# Altium footprint library 通讯接口.PcbLib: 39 footprints (part 2 of 3)
Each footprint in its own frame and in the unit in brackets; x right, y up, seen from the top. Pads: shape width x height; smd on the part's side, far side on the other; paste and mask are expansions set on the pad; w line width, h text height; cw(c..) or ccw(c..) is an arc to the next point about the centre after c.
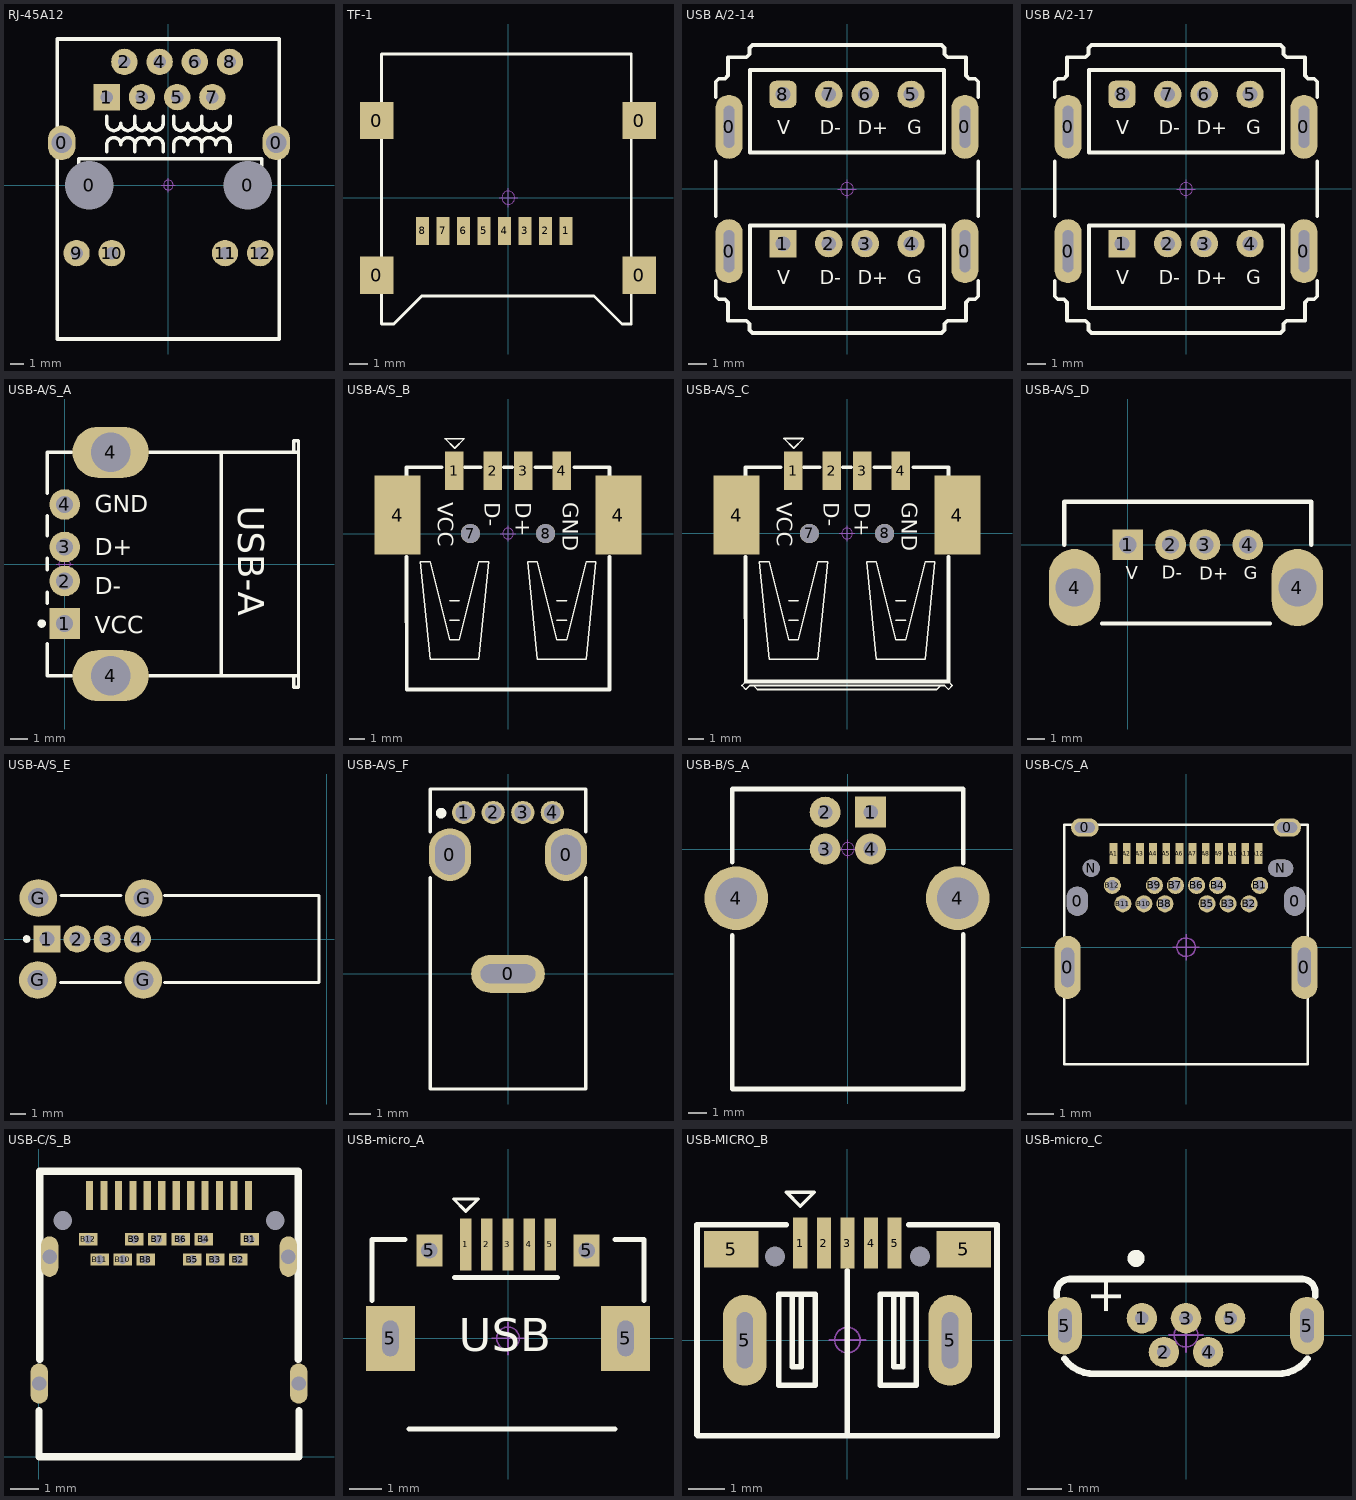
[diagram p1: the footprints below, top view; thin cyan lines are the x and y axes]

## RJ-45A12 [mm] "网线接口"
pads (16):
  oval 2x2.5 hole 1.5: 0(-7.695,3.05) 0(7.785,3.05)
  round 3.302 hole 3.5: 0(-5.715,0) 0(5.715,0)
  rect 1.905x1.905 hole 0.9: 1(-4.445,6.35)
  round 1.905 hole 0.9: 2(-3.175,8.89) 3(-1.905,6.35) 4(-0.635,8.89) 5(0.635,6.35) 6(1.905,8.89) 7(3.175,6.35) 8(4.445,8.89) 9(-6.625,-4.9) 10(-4.085,-4.9) 11(4.085,-4.9) 12(6.625,-4.9)
Top Overlay:
  lines w0.254: -6.477,1.397 -6.477,1.905 6.731,1.905 6.731,1.397 ; -4.445,2.413 -4.445,2.921 cw(c-3.937,2.921) -3.429,2.921 cw(c-2.921,2.921) -2.413,2.921 ; -4.445,4.953 -4.445,4.445 ccw(c-3.937,4.445) -3.429,4.445 ccw(c-2.921,4.445) -2.413,4.445 ; -2.413,2.413 -2.413,2.921 ; -2.413,4.953 -2.413,4.445 ; -0.381,2.413 -0.381,2.921 ccw(c-0.889,2.921) -1.397,2.921 ccw(c-1.905,2.921) -2.413,2.921 ; -0.381,4.953 -0.381,4.445 cw(c-0.889,4.445) -1.397,4.445 cw(c-1.905,4.445) -2.413,4.445 ; 0.381,2.413 0.381,2.921 cw(c0.889,2.921) 1.397,2.921 cw(c1.905,2.921) 2.413,2.921 ; 0.381,4.953 0.381,4.445 ccw(c0.889,4.445) 1.397,4.445 ccw(c1.905,4.445) 2.413,4.445 ; 2.413,2.413 2.413,2.921 ; 2.413,4.953 2.413,4.445 ; 4.445,2.413 4.445,2.921 ccw(c3.937,2.921) 3.429,2.921 ccw(c2.921,2.921) 2.413,2.921 ; 4.445,4.953 4.445,4.445 cw(c3.937,4.445) 3.429,4.445 cw(c2.921,4.445) 2.413,4.445 ; -8.001,-11.1 8.001,-11.1 8.001,10.541 -8.001,10.541 -8.001,-11.1
Mechanical 15:
  circle w0.05: c0,0 r0.35
  lines w0.05: -0.5,0 0.5,0 ; 0,-0.5 0,0.5
3D body "HanRun-HR911105A.STEP": height 1.5, standoff -15, extent -7.971,-10.926 7.909,10.474

## TF-1 [mm]
height 2
pads (12):
  rect 1.8x2 smd: 0(-7.068,-4.16) 0(-7.068,4.14) 0(7.032,-4.16) 0(7.032,4.14)
  rect 0.7x1.5 smd: 1(3.1,-1.783) 2(2,-1.783) 3(0.9,-1.783) 4(-0.2,-1.783) 5(-1.3,-1.783) 6(-2.4,-1.783) 7(-3.5,-1.783) 8(-4.6,-1.783)
Top Overlay:
  lines w0.152: -6.8,-6.783 -6.15,-6.783 -4.65,-5.283 4.6,-5.283 6.1,-6.783 6.6,-6.783 6.6,7.717 3.1,7.717 -6.8,7.717 -6.8,-6.783
Mechanical 15:
  circle w0.05: c0,0 r0.35
  lines w0.05: -0.5,0 0.5,0 ; 0,-0.5 0,0.5
3D body "User Library-5009010801.STEP": height 1.93, standoff -0.02, extent -7.4,-6.783 7.2,7.717

## USB A/2-14 [mm] "双层USB母座高14.2mm"
pads (12):
  oval 1.5x3.5 hole 0.6 slot 2.3 at 90 deg: 0(-6.45,-3.4) 0(-6.45,3.4) 0(6.45,-3.4) 0(6.45,3.4)
  rect 1.5x1.5 hole 0.8: 1(-3.5,-2.985)
  round 1.5 hole 0.8: 2(-1,-2.985) 3(1,-2.985) 4(3.5,-2.985) 5(3.5,5.17) 6(1,5.17) 7(-1,5.17)
  rrect50% 1.5x1.5 hole 0.8: 8(-3.5,5.17)
Top Overlay:
  lines w0.203: -7.176,-5.024 -7.176,-5.863 -7.007,-6.031 -6.67,-6.031 -6.501,-6.2 -6.5,-6.199 -6.5,-7.199 -5.5,-7.199 -5.331,-7.369 -5.331,-7.706 -5.163,-7.875 5.162,-7.875 5.331,-7.706 5.331,-7.369 5.5,-7.2 6.5,-7.199 6.5,-6.199 6.501,-6.2 6.67,-6.031 7.007,-6.031 7.176,-5.863 7.176,-5.024 ; -7.176,-1.476 -7.176,1.524 ; -7.176,5.024 -7.176,5.862 -7.007,6.031 -6.67,6.031 -6.501,6.2 -6.5,6.199 -6.5,7.199 -5.5,7.199 ; -5.5,7.2 -5.331,7.369 -5.331,7.706 -5.163,7.875 5.162,7.875 5.331,7.706 5.331,7.369 5.5,7.2 6.5,7.199 6.5,6.199 6.501,6.2 6.67,6.031 7.007,6.031 7.176,5.863 7.176,5.024 ; 7.176,-1.476 7.176,1.524 ; -5.3,-6.5 5.3,-6.5 5.3,-2 -5.3,-2 -5.3,-6.5 ; -5.3,2 -5.3,6.5 5.3,6.5 5.3,2 -5.3,2
  text "V" at -3.812,-5.207 h0.76
  text "G" at 3.3,-5.2 h0.76
  text "D+" at 0.6,-5.2 h0.76
  text "D-" at -1.5,-5.2 h0.76
  text "D-" at -1.5,3 h0.76
  text "D+" at 0.6,3 h0.76
  text "G" at 3.3,3 h0.76
  text "V" at -3.812,2.993 h0.76
Mechanical 15:
  circle w0.05: c0,0 r0.35
  lines w0.05: -0.5,0 0.5,0 ; 0,-0.5 0,0.5
3D body "USB A型14-2-14_2-180.STEP": height 14.26, standoff -4.03, extent -7.927,-7.8 7.927,7.8

## USB A/2-17 [mm] "双层USB母座高16.7mm"
pads (12):
  oval 1.5x3.5 hole 0.6 slot 2.3 at 90 deg: 0(-6.45,-3.4) 0(-6.45,3.4) 0(6.45,-3.4) 0(6.45,3.4)
  rect 1.5x1.5 hole 0.8: 1(-3.5,-2.985)
  round 1.5 hole 0.8: 2(-1,-2.985) 3(1,-2.985) 4(3.5,-2.985) 5(3.5,5.17) 6(1,5.17) 7(-1,5.17)
  rrect50% 1.5x1.5 hole 0.8: 8(-3.5,5.17)
Top Overlay:
  lines w0.203: -7.176,-5.024 -7.176,-5.863 -7.007,-6.031 -6.67,-6.031 -6.501,-6.2 -6.5,-6.199 -6.5,-7.199 -5.5,-7.199 -5.331,-7.369 -5.331,-7.706 -5.163,-7.875 5.162,-7.875 5.331,-7.706 5.331,-7.369 5.5,-7.2 6.5,-7.199 6.5,-6.199 6.501,-6.2 6.67,-6.031 7.007,-6.031 7.176,-5.863 7.176,-5.024 ; -7.176,-1.476 -7.176,1.524 ; -7.176,5.024 -7.176,5.862 -7.007,6.031 -6.67,6.031 -6.501,6.2 -6.5,6.199 -6.5,7.199 -5.5,7.199 ; -5.5,7.2 -5.331,7.369 -5.331,7.706 -5.163,7.875 5.162,7.875 5.331,7.706 5.331,7.369 5.5,7.2 6.5,7.199 6.5,6.199 6.501,6.2 6.67,6.031 7.007,6.031 7.176,5.863 7.176,5.024 ; 7.176,-1.476 7.176,1.524 ; -5.3,-6.5 -5.3,-2 5.3,-2 5.3,-6.5 -5.3,-6.5 ; -5.3,2 5.3,2 5.3,6.5 -5.3,6.5 -5.3,2
  text "V" at -3.812,2.993 h0.76
  text "G" at 3.3,3 h0.76
  text "D+" at 0.6,3 h0.76
  text "D-" at -1.5,3 h0.76
  text "D-" at -1.5,-5.2 h0.76
  text "D+" at 0.6,-5.2 h0.76
  text "G" at 3.3,-5.2 h0.76
  text "V" at -3.812,-5.207 h0.76
Mechanical 15:
  circle w0.05: c0,0 r0.35
  lines w0.05: -0.5,0 0.5,0 ; 0,-0.5 0,0.5
3D body "USB A型14-2-16_7-180.STEP": height 16.75, standoff -4.03, extent -7.927,-7.8 7.927,7.8

## USB-A/S_A [mm] "A型直插母头，"
height 7.01
pads (6):
  rect 1.8x1.8 hole 1: 1(0,-3.5)
  round 1.8 hole 1: 2(0,-1) 3(0,1) 4(0,3.5)
  oval 4.5x3 hole 2.3: 4(2.71,-6.57) 4(2.71,6.57)
Top Overlay:
  circle w0.25: c-1.35,-3.5 r0.125
  lines w0.2: -1.01,-4.7 -1.01,-6.565 0.41,-6.565 ; -1.01,-2.3 -1.01,-1.66 ; -1.01,-0.34 -1.01,0.34 ; -1.01,1.66 -1.01,2.84 ; -1.01,4.16 -1.01,6.565 0.41,6.565 ; 5.01,-6.565 13.752,-6.565 ; 5.01,6.565 13.752,6.565 ; 13.462,-6.565 13.462,-7.25 13.752,-7.25 13.752,7.25 13.462,7.25 13.462,6.565
  lines w0.203: 9.21,-6.565 9.21,6.565
  text "GND" at 1.778,3.048 h1.02
  text "D+" at 1.778,0.508 h1.02
  text "D-" at 1.778,-1.778 h1.02
  text "VCC" at 1.778,-4.064 h1.02
  text "USB-A" at 10.21,3.43 h1.52
Mechanical 15:
  circle w0.05: c0,0 r0.35
  lines w0.05: -0.5,0 0.5,0 ; 0,-0.5 0,0.5
3D body "USB A型 ?": height 6.8, standoff -4.31, extent -0.605,-7.342 13.7,7.342

## USB-A/S_B [mm] "A型贴片母头，"
pads (8):
  rect 1.2x2.5 smd: 1(-3.5,4.1) 2(-1,4.1) 3(1,4.1) 4(3.5,4.1)
  rect 3x5.15 smd: 4(-7.2,1.2) 4(7.2,1.2)
  round 1.25 hole 1.25 unplated: 7(-2.45,0) 8(2.45,0)
Top Overlay:
  lines w0.1: -3.803,-5.649 -3.168,-5.649 ; -3.803,-4.379 -3.168,-4.379 ; 3.182,-5.649 3.817,-5.649 ; 3.182,-4.379 3.817,-4.379 ; -5.708,-1.839 -5.073,-1.839 -3.803,-6.919 -3.168,-6.919 -1.898,-1.839 -1.263,-1.839 -1.898,-8.189 -5.073,-8.189 -5.708,-1.839 ; -4.113,6.19 -2.843,6.19 -3.478,5.555 -4.113,6.19 ; 1.277,-1.839 1.912,-1.839 3.182,-6.919 3.817,-6.919 5.087,-1.839 5.722,-1.839 5.087,-8.189 1.912,-8.189 1.277,-1.839
  lines w0.254: -6.604,-1.524 -6.597,-10.16 6.611,-10.16 6.604,-1.524 ; -6.604,3.81 -6.604,4.318 -4.318,4.318 ; -2.794,4.318 -1.778,4.318 ; -0.254,4.318 0.254,4.318 ; 1.778,4.318 2.794,4.318 ; 4.318,4.318 6.611,4.318 6.604,3.81
  text "VCC" at -4.572,2.032 h1.02
  text "D-" at -1.524,2.032 h1.02
  text "D+" at 0.508,2.032 h1.02
  text "GND" at 3.556,2.032 h1.02
Mechanical 15:
  circle w0.05: c0,0 r0.35
  lines w0.05: -0.5,0 0.5,0 ; 0,-0.5 0,0.5
3D body "USB A型 ?": height 6.9, standoff -0.55, extent -7.75,-9.9 7.75,4.8

## USB-A/S_C [mm] "A型贴片母头，"
pads (8):
  rect 1.2x2.5 smd: 1(-3.5,4.1) 2(-1,4.1) 3(1,4.1) 4(3.5,4.1)
  rect 3x5.15 smd: 4(-7.2,1.2) 4(7.2,1.2)
  round 1.25 hole 1.25 unplated: 7(-2.45,0) 8(2.45,0)
Top Overlay:
  lines w0.1: -6.597,-9.652 -6.851,-9.906 -6.597,-10.16 -6.343,-9.906 -6.089,-9.906 ; -3.803,-5.649 -3.168,-5.649 ; -3.803,-4.379 -3.168,-4.379 ; 3.182,-5.649 3.817,-5.649 ; 3.182,-4.379 3.817,-4.379 ; 6.611,-9.652 6.865,-9.906 6.611,-10.16 6.357,-9.906 6.103,-9.906 ; -6.089,-9.906 6.103,-9.906 ; -6.089,-9.906 -5.835,-10.166 5.849,-10.166 6.103,-9.906 ; -5.708,-1.839 -5.073,-1.839 -3.803,-6.919 -3.168,-6.919 -1.898,-1.839 -1.263,-1.839 -1.898,-8.189 -5.073,-8.189 -5.708,-1.839 ; -4.113,6.19 -2.843,6.19 -3.478,5.555 -4.113,6.19 ; 1.277,-1.839 1.912,-1.839 3.182,-6.919 3.817,-6.919 5.087,-1.839 5.722,-1.839 5.087,-8.189 1.912,-8.189 1.277,-1.839
  lines w0.254: -6.604,-1.524 -6.597,-9.652 ; -6.604,3.81 -6.604,4.318 -4.318,4.318 ; -6.597,-9.652 6.611,-9.652 ; -2.794,4.318 -1.778,4.318 ; -0.254,4.318 0.254,4.318 ; 1.778,4.318 2.794,4.318 ; 4.318,4.318 6.611,4.318 6.604,3.81 ; 6.604,-1.524 6.611,-9.652
  text "VCC" at -4.572,2.032 h1.02
  text "D-" at -1.524,2.032 h1.02
  text "D+" at 0.508,2.032 h1.02
  text "GND" at 3.556,2.032 h1.02
Mechanical 15:
  circle w0.05: c0,0 r0.35
  lines w0.05: -0.5,0 0.5,0 ; 0,-0.5 0,0.5
3D body "USB A型 ?": height 7.4, standoff -0.55, extent -7.75,-9.9 7.75,4.8

## USB-A/S_D [mm] "A型直插母头，"
pads (6):
  rect 1.8x1.8 hole 1: 1(0,0)
  round 1.8 hole 1: 2(2.5,0) 3(4.5,0) 4(7,0)
  oval 3x4.5 hole 2.2: 4(-3.1,-2.5) 4(9.9,-2.5)
Top Overlay:
  lines w0.254: -3.7,0 -3.7,2.5 10.7,2.5 10.7,0 ; -1.5,-4.6 8.3,-4.6
  text "V" at -0.112,-2.007 h0.76
  text "G" at 6.771,-2.007 h0.76
  text "D+" at 4.181,-2.032 h0.76
  text "D-" at 1.996,-1.981 h0.76
Mechanical 1:
  lines w0.254: -0.2,-0.2 cw(c0,-0.2) 0,0
3D body "USB-H.stp": height 14, standoff -4, extent -3.705,-4.599 10.695,2.501

## USB-A/S_E [mm] "A型直插母头，"
pads (8):
  rect 1.8x1.8 hole 1: 1(-18.56,0)
  round 1.8 hole 1: 2(-16.56,0) 3(-14.56,0) 4(-12.56,0)
  round 2.5 hole 1.35: G(-19.167,-2.718) G(-19.141,2.718) G(-12.167,-2.718) G(-12.141,2.718)
Top Overlay:
  circle w0.25: c-19.91,0 r0.125
  lines w0.2: -17.65,-2.878 -13.684,-2.878 ; -17.624,2.878 -13.658,2.878 ; -10.773,-2.88 -0.508,-2.88 -0.508,2.88 -10.773,2.88
3D body "USB-4H4.stp": height 14.45, standoff -3.69, extent -19.725,-3.606 -0.475,3.644

## USB-A/S_F [mm] "A型侧插短体无卷边 90度母座"
pads (7):
  oval 2x2.5 hole 1.4 slot 1.9 at 90 deg: 0(-2.75,5.65) 0(2.75,5.65)
  oval 3.5x1.8 hole 0.9 slot 2.6 at 0 deg: 0(0,0)
  round 1.1 hole 0.8: 1(-2.1,7.65) 2(-0.7,7.65) 3(0.7,7.65) 4(2.1,7.65)
Top Overlay:
  circle w0.25: c-3.173,7.62 r0.125
  lines w0.152: -3.683,4.572 -3.683,-5.461 3.683,-5.461 3.683,4.572 ; -3.683,6.731 -3.683,8.763 3.683,8.763 3.683,6.731
3D body "USB A型?": height 13.7, standoff -3.05, extent -3.56,-5.35 3.56,8.65

## USB-B/S_A [mm] "b型USB 母座 16.3*13.7*11mm"
height 1.1
pads (6):
  rect 1.7x1.7 hole 0.8: 1(1.25,2.032)
  round 1.7 hole 0.8: 2(-1.25,2.032) 3(-1.25,0) 4(1.25,0)
  round 3.5 hole 2.3: 4(-6.141,-2.71) 4(6.051,-2.71)
Top Overlay:
  lines w0.254: -6.35,-4.737 -6.35,-13.208 6.35,-13.208 6.35,-4.686 ; -6.35,-0.724 -6.35,3.302 6.35,3.302 6.35,-0.775
Mechanical 15:
  circle w0.05: c0,0 r0.35
  lines w0.05: -0.5,0 0.5,0 ; 0,-0.5 0,0.5
3D body "USB B型 ?": height 11.45, standoff -2.95, extent -6.86,-13.16 6.859,3.14

## USB-C/S_A [mm]
pads (32):
  oval 1x2.4 hole 0.5 slot 1.5 at 90 deg: 0(-4.5,-0.765) 0(4.5,-0.765)
  oval 0.8x1.1 hole 0.8 slot 1.1 at 90 deg: 0(-4.13,1.75) 0(4.13,1.75)
  oval 1.05x0.7 hole 0.4 slot 0.75 at 0 deg: 0(-3.845,4.55) 0(3.845,4.55)
  rect 0.3x0.8 smd: A1(-2.75,3.56) A2(-2.25,3.56) A3(-1.75,3.56) A4(-1.25,3.56) A5(-0.75,3.56) A6(-0.25,3.56) A7(0.25,3.56) A8(0.75,3.56) A9(1.25,3.56) A10(1.75,3.56) A11(2.25,3.56) A12(2.75,3.56)
  round 0.65 hole 0.4: B1(2.8,2.35) B2(2.4,1.65) B3(1.6,1.65) B4(1.2,2.35) B5(0.8,1.65) B6(0.4,2.35) B7(-0.4,2.35) B8(-0.8,1.65) B9(-1.2,2.35) B10(-1.6,1.65) B11(-2.4,1.65) B12(-2.8,2.35)
  round 0.65 hole 0.65: N(-3.6,3)
  oval 0.95x0.65 hole 0.65 slot 0.95 at 0 deg: N(3.6,3)
Top Overlay:
  lines w0.1: -4.625,-4.45 -4.625,4.65 4.625,4.65 4.625,-4.45 -4.625,-4.45
Mechanical 15:
  circle w0.05: c0,0 r0.35
  lines w0.05: -0.5,0 0.5,0 ; 0,-0.5 0,0.5
3D body "type-Cĸ?": height 3.35, standoff -0.9, extent -4.625,-4.45 4.625,4.65

## USB-C/S_B [mm]
pads (30):
  rect 0.25x1 smd: A1(1.75,9.037) A2(2.25,9.037) A3(2.75,9.037) A4(3.25,9.037) A5(3.75,9.037) A6(4.25,9.037) A7(4.75,9.037) A8(5.25,9.037) A9(5.75,9.037) A10(6.25,9.037) A11(6.75,9.037) A12(7.25,9.037)
  rect 0.64x0.42 hole 0.3: B1(7.3,7.52) B2(6.9,6.82) B3(6.1,6.82) B4(5.7,7.52) B5(5.3,6.82) B6(4.9,7.52) B7(4.1,7.52) B8(3.7,6.82) B9(3.3,7.52) B10(2.9,6.82) B11(2.1,6.82) B12(1.7,7.52)
  oval 0.6x1.4 hole 0.5: ""(0.01,2.53) ""(0.37,6.92) ""(8.63,6.92) ""(8.99,2.53)
  round 0 hole 0.65: ""(0.825,8.17) ""(8.175,8.17)
Top Overlay:
  lines w0.254: 0,1.583 0,0 9,0 9,1.583 ; 0.025,3.37 0.025,9.87 8.975,9.87 8.975,3.37

## USB-micro_A [mm] "micro型USB ，5.7*7.8*2.5mm"
pads (9):
  rect 0.35x1.6 smd: 1(-1.3,2.9) 2(-0.65,2.9) 3(0,2.9) 4(0.65,2.9) 5(1.3,2.9)
  rect 1.5x2 hole 0.5 slot 1.1 at 90 deg: 5(-3.625,0) 5(3.625,0)
  rect 0.8x1 hole 0.5: 5(-2.425,2.71) 5(2.425,2.71)
Top Overlay:
  lines w0.1: -1.681,4.297 -0.919,4.297 -1.3,3.916 -1.681,4.297
  lines w0.152: -4.191,1.168 -4.191,3.048 -3.175,3.048 ; -3.048,-2.794 3.302,-2.794 ; -1.65,1.875 1.525,1.875 ; 3.302,3.048 4.191,3.048 4.191,1.168
  text "USB" at -1.524,-0.402 h1.02
Mechanical 15:
  circle w0.05: c0,0 r0.35
  lines w0.05: -0.5,0 0.5,0 ; 0,-0.5 0,0.5
3D body "USB micro_A.STEP": height 2.8, standoff -0.95, extent -4.001,-2.71 4.001,2.89

## USB-MICRO_B [mm] "micro型USB ，5.9*8.2*2.5mm"
pads (11):
  round 0 hole 0.55 unplated: 0(-2,2.294) 0(2,2.294)
  rect 0.394x1.4 smd: 1(-1.295,2.667) 2(-0.648,2.667) 3(0,2.667) 4(0.648,2.667) 5(1.295,2.667)
  rect 1.5x1 smd: 5(-3.2,2.5) 5(3.2,2.5)
  oval 1.2x2.5 hole 0.45 slot 1.55 at 90 deg: 5(-2.825,-0.006) 5(2.825,-0.006)
Top Overlay:
  lines w0.1: -1.676,4.064 -0.914,4.064 -1.295,3.683 -1.676,4.064
  lines w0.15: -4.14,3.175 -1.689,3.175 ; 0,-2.629 0,1.905 ; 1.689,3.175 4.115,3.175
  lines w0.152: -4.14,-2.603 -4.14,3.175 ; -4.115,-2.629 4.089,-2.629 ; -1.524,1.257 -1.524,-0.728 -1.321,-0.728 -1.27,-0.728 -1.27,1.257 ; 1.27,1.257 1.27,-0.728 1.524,-0.728 1.524,1.257 ; 4.115,-2.629 4.115,3.175 ; -1.885,-1.243 -1.885,1.257 -0.885,1.257 -0.885,-1.243 -1.885,-1.243 ; 0.896,-1.243 1.896,-1.243 1.896,1.257 0.896,1.257 0.896,-1.243
Mechanical 15:
  circle w0.05: c0,0 r0.35
  lines w0.05: -0.5,0 0.5,0 ; 0,-0.5 0,0.5
3D body "USB micro_B.STEP": height 2.8, standoff -1.35, extent -4.001,-2.716 4.001,2.884

## USB-micro_C [mm] "micro型USB ，5.7*7.8*2.5mm"
pads (7):
  round 0.9 hole 0.4: 1(-1.3,0.5) 2(-0.65,-0.5) 3(0,0.5) 4(0.65,-0.5) 5(1.3,0.5)
  oval 1x1.7 hole 0.4 slot 1 at 90 deg: 5(-3.575,0.28) 5(3.575,0.28)
Top Overlay:
  circle w0.254: c-1.473,2.261 r0.127
  lines w0.2: -3.81,1.143 -3.81,1.27 cw(c-3.429,1.27) -3.429,1.651 -3.175,1.651 -2.794,1.651 2.794,1.651 3.175,1.651 3.429,1.651 cw(c3.429,1.27) 3.81,1.27 3.81,1.143 ; -3.587,-0.697 ccw(c-2.718,-0.076) -2.667,-1.143 ; -2.629,-1.143 -2.413,-1.143 2.413,-1.143 2.667,-1.143 ccw(c2.718,-0.076) 3.587,-0.697
  text "+" at -1.905,0.559 h1.02
Mechanical 15:
  circle w0.05: c0,0 r0.35
  lines w0.05: -0.5,0 0.5,0 ; 0,-0.5 0,0.5
3D body "USB micro_C.STEP": height 5.65, standoff -1.55, extent -4.001,-1.207 4.001,1.767